# EAGLE library part 2X30 (library headers(.5mm)(samtec))
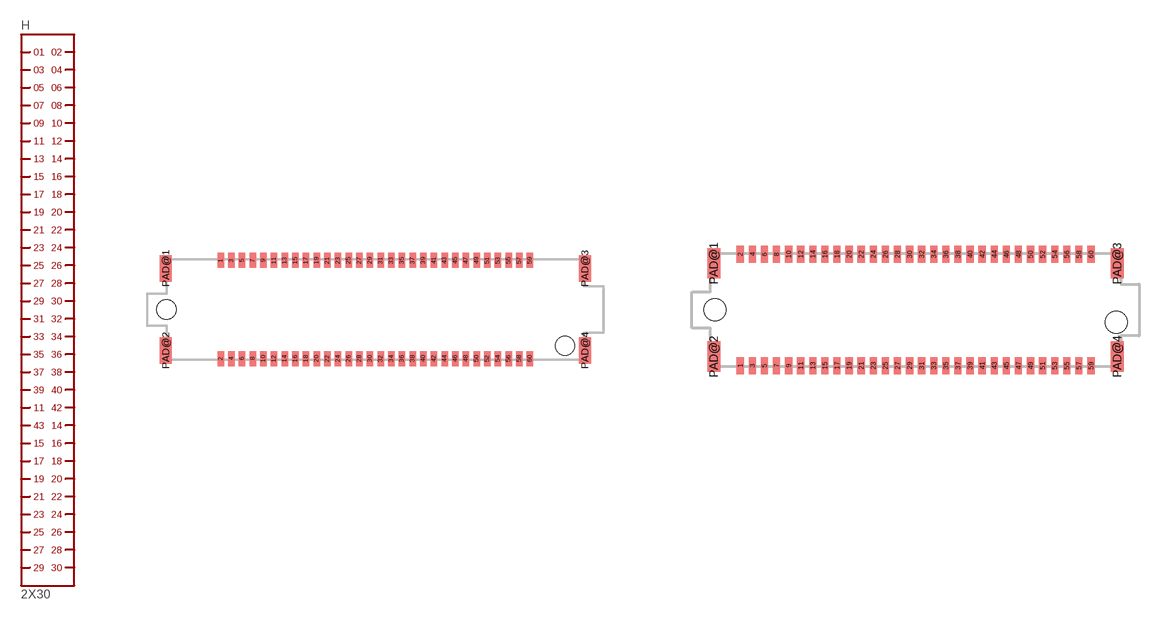
[diagram p0: symbol with the pads of SSH-030-X.XX-X-D-A; footprints SSH-030-X.XX-X-D-A, STH-030-X.XX-X-D-A]

Designator prefix H

## 2X30.SSH  [SSH-030-X.XX-X-D-A]
1  1
2  2
3  3
4  4
5  5
6  6
7  7
8  8
9  9
10  10
11  11
12  12
13  13
14  14
15  15
16  16
17  17
18  18
19  19
20  20
21  21
22  22
23  23
24  24
25  25
26  26
27  27
28  28
29  29
30  30
31  31
32  32
33  33
34  34
35  35
36  36
37  37
38  38
39  39
40  40
41  41
42  42
43  43
44  44
45  45
46  46
47  47
48  48
49  49
50  50
51  51
52  52
53  53
54  54
55  55
56  56
57  57
58  58
59  59
60  60

## 2X30.STH  [STH-030-X.XX-X-D-A]
Pads as for SSH-030-X.XX-X-D-A

## Footprint SSH-030-X.XX-X-D-A (pad centres in mm)
smd 0.3 x 0.7: 1 -7.25,2.3; 2 -7.25,-2.3; 3 -6.75,2.3; 4 -6.75,-2.3; 5 -6.25,2.3; 6 -6.25,-2.3; 7 -5.75,2.3; 8 -5.75,-2.3; 9 -5.25,2.3; 10 -5.25,-2.3; 11 -4.75,2.3; 12 -4.75,-2.3; 13 -4.25,2.3; 14 -4.25,-2.3; 15 -3.75,2.3; 16 -3.75,-2.3; 17 -3.25,2.3; 18 -3.25,-2.3; 19 -2.75,2.3; 20 -2.75,-2.3; 21 -2.25,2.3; 22 -2.25,-2.3; 23 -1.75,2.3; 24 -1.75,-2.3; 25 -1.25,2.3; 26 -1.25,-2.3; 27 -0.75,2.3; 28 -0.75,-2.3; 29 -0.25,2.3; 30 -0.25,-2.3; 31 0.25,2.3; 32 0.25,-2.3; 33 0.75,2.3; 34 0.75,-2.3; 35 1.25,2.3; 36 1.25,-2.3; 37 1.75,2.3; 38 1.75,-2.3; 39 2.25,2.3; 40 2.25,-2.3; 41 2.75,2.3; 42 2.75,-2.3; 43 3.25,2.3; 44 3.25,-2.3; 45 3.75,2.3; 46 3.75,-2.3; 47 4.25,2.3; 48 4.25,-2.3; 49 4.75,2.3; 50 4.75,-2.3; 51 5.25,2.3; 52 5.25,-2.3; 53 5.75,2.3; 54 5.75,-2.3; 55 6.25,2.3; 56 6.25,-2.3; 57 6.75,2.3; 58 6.75,-2.3; 59 7.25,2.3; 60 7.25,-2.3
smd 0.55 x 1.25: PAD@1 -9.83,1.925; PAD@2 -9.83,-1.925; PAD@3 9.83,1.925; PAD@4 9.83,-1.925
hole 0.89 at -9.8,0
hole 0.89 at 8.9,-1.7

## Footprint STH-030-X.XX-X-D-A (pad centres in mm)
smd 0.3 x 0.7: 1 -7.25,-2.3; 2 -7.25,2.3; 3 -6.75,-2.3; 4 -6.75,2.3; 5 -6.25,-2.3; 6 -6.25,2.3; 7 -5.75,-2.3; 8 -5.75,2.3; 9 -5.25,-2.3; 10 -5.25,2.3; 11 -4.75,-2.3; 12 -4.75,2.3; 13 -4.25,-2.3; 14 -4.25,2.3; 15 -3.75,-2.3; 16 -3.75,2.3; 17 -3.25,-2.3; 18 -3.25,2.3; 19 -2.75,-2.3; 20 -2.75,2.3; 21 -2.25,-2.3; 22 -2.25,2.3; 23 -1.75,-2.3; 24 -1.75,2.3; 25 -1.25,-2.3; 26 -1.25,2.3; 27 -0.75,-2.3; 28 -0.75,2.3; 29 -0.25,-2.3; 30 -0.25,2.3; 31 0.25,-2.3; 32 0.25,2.3; 33 0.75,-2.3; 34 0.75,2.3; 35 1.25,-2.3; 36 1.25,2.3; 37 1.75,-2.3; 38 1.75,2.3; 39 2.25,-2.3; 40 2.25,2.3; 41 2.75,-2.3; 42 2.75,2.3; 43 3.25,-2.3; 44 3.25,2.3; 45 3.75,-2.3; 46 3.75,2.3; 47 4.25,-2.3; 48 4.25,2.3; 49 4.75,-2.3; 50 4.75,2.3; 51 5.25,-2.3; 52 5.25,2.3; 53 5.75,-2.3; 54 5.75,2.3; 55 6.25,-2.3; 56 6.25,2.3; 57 6.75,-2.3; 58 6.75,2.3; 59 7.25,-2.3; 60 7.25,2.3
smd 0.55 x 1.25: PAD@1 -8.34,1.925; PAD@2 -8.34,-1.925; PAD@3 8.34,1.925; PAD@4 8.34,-1.925
hole 0.9 at 8.3,-0.5
hole 0.9 at -8.3,0